# EAGLE library part 1-1445055-1 (library matt con-amp)
Micro MATE-N-LOK Connectors grid 1.5 mm Source: ENG_CD_1445055_A.pdf
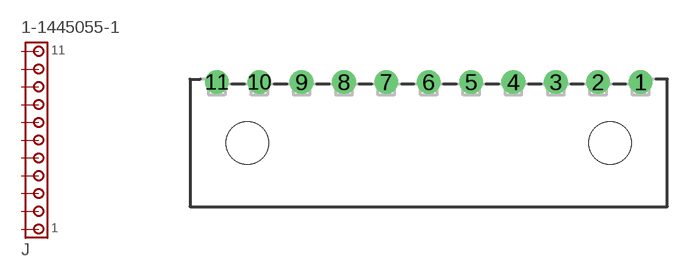
[diagram p140: symbol with the pads of 1-1445055-1; footprint 1-1445055-1]

Designator prefix J

## 1-1445055-1  [1-1445055-1]
1  1  pas
2  2  pas
3  3  pas
4  4  pas
5  5  pas
6  6  pas
7  7  pas
8  8  pas
9  9  pas
10  10  pas
11  11  pas

## Footprint 1-1445055-1 (pad centres in mm)
Micro MATE-N-LOK Connectors grid 1.5 mm Source: ENG_CD_1445055_A.pdf
drill 1 pad 1.676 round: 1 15,4.32; 2 12,4.32; 3 9,4.32; 4 6,4.32; 5 3,4.32; 6 0,4.32; 7 -3,4.32; 8 -6,4.32; 9 -9,4.32; 10 -12,4.32; 11 -15,4.32
hole 3 at -12.85,0
hole 3 at 12.85,0